# Altium footprint library 3296W.PcbLib: 1 footprints
Each footprint in its own frame and in the unit in brackets; x right, y up, seen from the top. Pads: shape width x height; smd on the part's side, far side on the other; paste and mask are expansions set on the pad; w line width, h text height; cw(c..) or ccw(c..) is an arc to the next point about the centre after c.
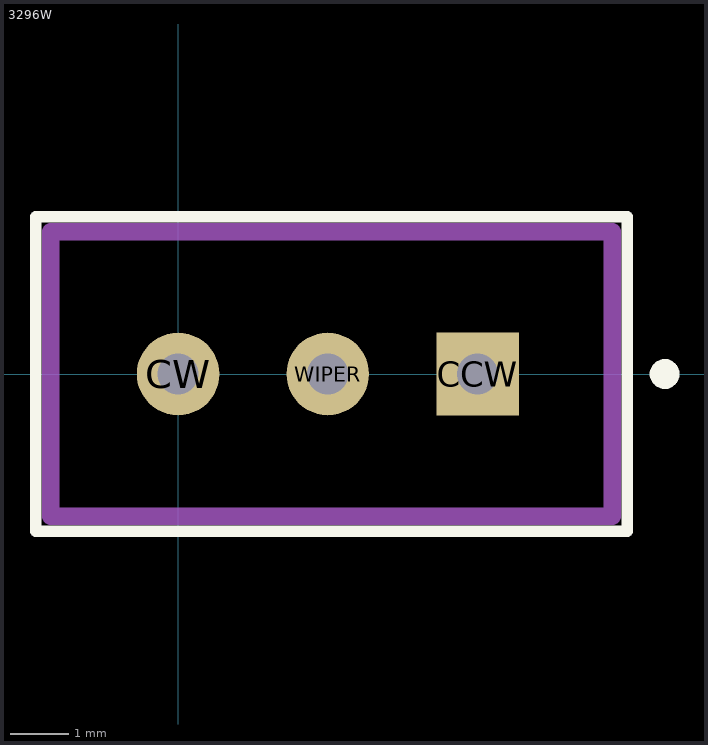
[diagram p0: the footprint, top view; thin cyan lines are the x and y axes]

## 3296W [mm]
pads (3):
  rect 1.4x1.4 hole 0.7: CCW(5.08,0)
  round 1.4 hole 0.7: CW(0,0) WIPER(2.54,0)
Top Overlay:
  circle w0.254: c8.255,0 r0.127
  lines w0.2: -2.413,-2.667 7.62,-2.667 7.62,2.667 -2.413,2.667 -2.413,-2.667
Mechanical 13:
  lines w0.3: -2.159,-2.413 7.366,-2.413 7.366,2.413 -2.159,2.413 -2.159,-2.413
  text ".Designator" at -0.762,3.175 h2.5
3D body: height 11.55, standoff -6.4, extent -2.159,-2.413 7.371,2.418